# Altium schematic symbol library TPS22942DCK.SchLib: 2 symbols
Pins are listed as number, name and electrical type; pins without a type are passive.

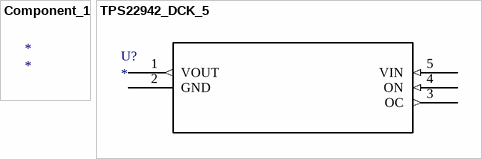
[diagram p0: symbols Component_1 to TPS22942_DCK_5]

## Component_1
designator *

## TPS22942_DCK_5
designator U?
Imported; Manufacturer_Part_Number: tps22942_dck_5; GENERIC_PART_NUMBER: TPS22942; Vendor: Texas Instruments; PACKAGE_DESIGNATOR: DCK; PIN_COUNT: 5; FAMILY_NAME: CURRENT LIMITED SWITCH; INDUSTRY_STD_PKG_TYPE: SC70; Datasheet URL: http://www.ti.com/lit/gpn/TPS22942; Manufacturer: Texas Instruments; RefDes: RefDes; Type: DEV; Value: Value
footprint DCK5
pins: 1 VOUT (out), 2 GND (power), 3 OC (out), 4 ON (in), 5 VIN (in)